# Altium schematic symbol library ATSAM3S.SchLib: 4 symbols
Pins are listed as number, name and electrical type; pins without a type are passive.

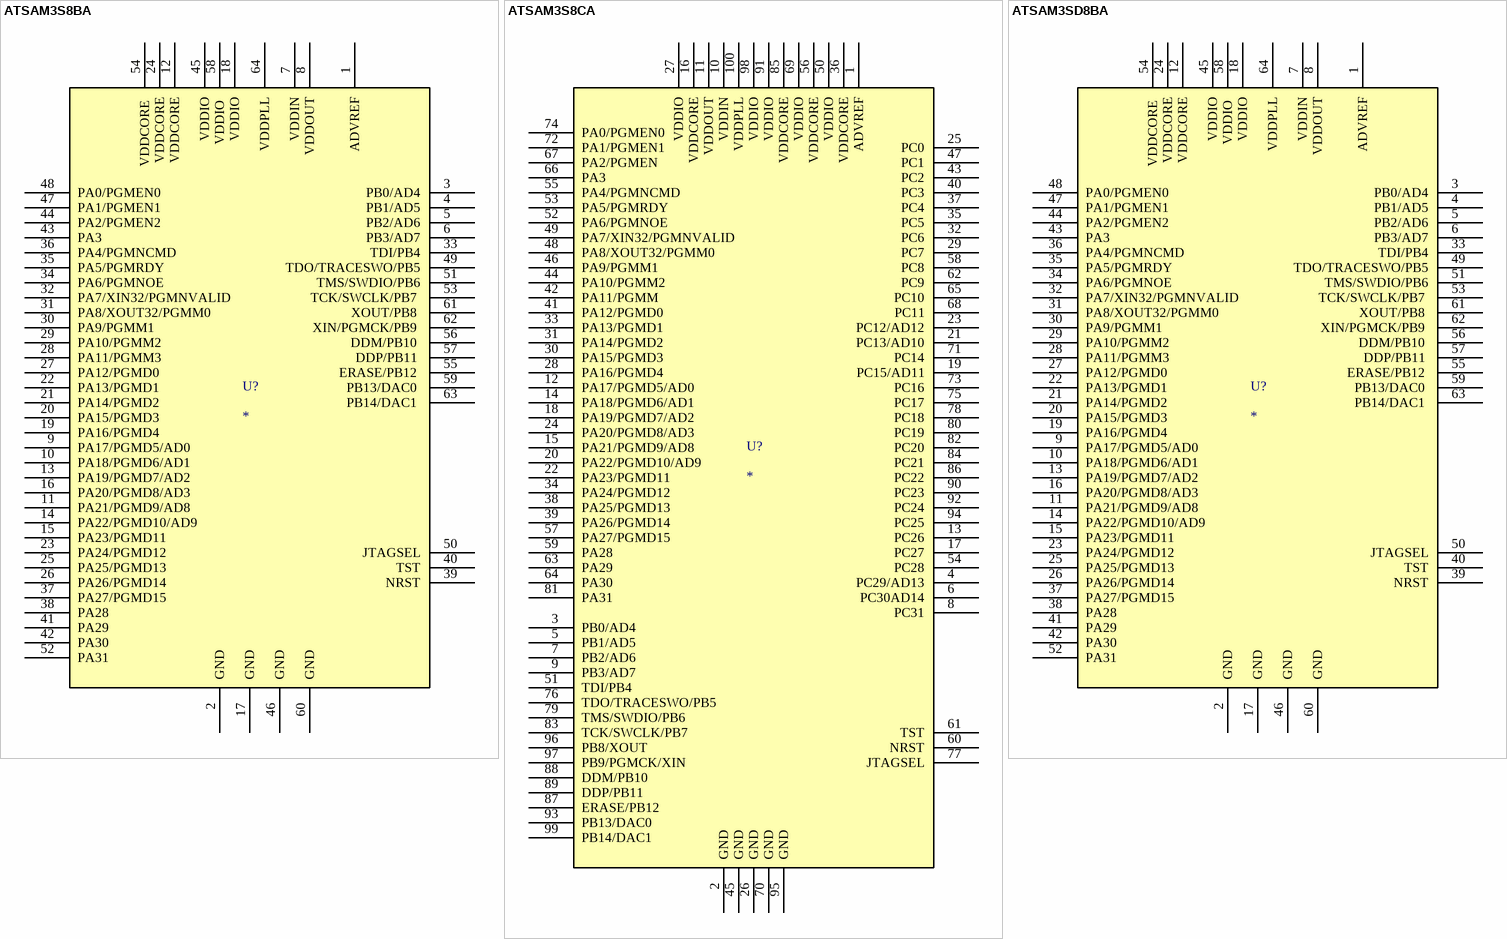
[diagram p0: symbols ATSAM3S8BA to ATSAM3SD8BA]

## ATSAM3S8BA
designator U?
pins: 1 ADVREF, 2 GND, 3 PB0/AD4, 4 PB1/AD5, 5 PB2/AD6, 6 PB3/AD7, 7 VDDIN, 8 VDDOUT, 9 PA17/PGMD5/AD0, 10 PA18/PGMD6/AD1, 11 PA21/PGMD9/AD8, 12 VDDCORE, 13 PA19/PGMD7/AD2, 14 PA22/PGMD10/AD9, 15 PA23/PGMD11, 16 PA20/PGMD8/AD3, 17 GND, 18 VDDIO, 19 PA16/PGMD4, 20 PA15/PGMD3, 21 PA14/PGMD2, 22 PA13/PGMD1, 23 PA24/PGMD12, 24 VDDCORE, 25 PA25/PGMD13, 26 PA26/PGMD14, 27 PA12/PGMD0, 28 PA11/PGMM3, 29 PA10/PGMM2, 30 PA9/PGMM1, 31 PA8/XOUT32/PGMM0, 32 PA7/XIN32/PGMNVALID, 33 TDI/PB4, 34 PA6/PGMNOE, 35 PA5/PGMRDY, 36 PA4/PGMNCMD, 37 PA27/PGMD15, 38 PA28, 39 NRST, 40 TST, 41 PA29, 42 PA30, 43 PA3, 44 PA2/PGMEN2, 45 VDDIO, 46 GND, 47 PA1/PGMEN1, 48 PA0/PGMEN0, 49 TDO/TRACESWO/PB5, 50 JTAGSEL, 51 TMS/SWDIO/PB6, 52 PA31 , 53 TCK/SWCLK/PB7 , 54 VDDCORE , 55 ERASE/PB12 , 56 DDM/PB10 , 57 DDP/PB11 , 58 VDDIO , 59 PB13/DAC0 , 60 GND , 61 XOUT/PB8 , 62 XIN/PGMCK/PB9 , 63 PB14/DAC1 , 64 VDDPLL

## ATSAM3S8CA
designator U?
pins: 1 ADVREF, 2 GND, 3 PB0/AD4, 4 PC29/AD13, 5 PB1/AD5, 6 PC30AD14, 7 PB2/AD6, 8 PC31, 9 PB3/AD7, 10 VDDIN, 11 VDDOUT, 12 PA17/PGMD5/AD0, 13 PC26, 14 PA18/PGMD6/AD1, 15 PA21/PGMD9/AD8, 16 VDDCORE, 17 PC27, 18 PA19/PGMD7/AD2, 19 PC15/AD11, 20 PA22/PGMD10/AD9, 21 PC13/AD10, 22 PA23/PGMD11, 23 PC12/AD12, 24 PA20/PGMD8/AD3, 25 PC0, 26 GND, 27 VDDIO, 28 PA16/PGMD4, 29 PC7, 30 PA15/PGMD3, 31 PA14/PGMD2, 32 PC6, 33 PA13/PGMD1, 34 PA24/PGMD12, 35 PC5, 36 VDDCORE, 37 PC4, 38 PA25/PGMD13, 39 PA26/PGMD14, 40 PC3, 41 PA12/PGMD0, 42 PA11/PGMM, 43 PC2, 44 PA10/PGMM2, 45 GND, 46 PA9/PGMM1, 47 PC1, 48 PA8/XOUT32/PGMM0, 49 PA7/XIN32/PGMNVALID, 50 VDDIO, 51 TDI/PB4, 52 PA6/PGMNOE, 53 PA5/PGMRDY, 54 PC28, 55 PA4/PGMNCMD, 56 VDDCORE, 57 PA27/PGMD15, 58 PC8, 59 PA28, 60 NRST, 61 TST, 62 PC9, 63 PA29, 64 PA30, 65 PC10, 66 PA3, 67 PA2/PGMEN, 68 PC11, 69 VDDIO, 70 GND, 71 PC14, 72 PA1/PGMEN1, 73 PC16, 74 PA0/PGMEN0, 75 PC17, 76 TDO/TRACESWO/PB5, 77 JTAGSEL, 78 PC18, 79 TMS/SWDIO/PB6, 80 PC19, 81 PA31, 82 PC20, 83 TCK/SWCLK/PB7, 84 PC21, 85 VDDCORE, 86 PC22, 87 ERASE/PB12, 88 DDM/PB10, 89 DDP/PB11, 90 PC23, 91 VDDIO, 92 PC24, 93 PB13/DAC0, 94 PC25, 95 GND, 96 PB8/XOUT, 97 PB9/PGMCK/XIN, 98 VDDIO, 99 PB14/DAC1, 100 VDDPLL

## ATSAM3SD8BA
designator U?
pins: 1 ADVREF, 2 GND, 3 PB0/AD4, 4 PB1/AD5, 5 PB2/AD6, 6 PB3/AD7, 7 VDDIN, 8 VDDOUT, 9 PA17/PGMD5/AD0, 10 PA18/PGMD6/AD1, 11 PA21/PGMD9/AD8, 12 VDDCORE, 13 PA19/PGMD7/AD2, 14 PA22/PGMD10/AD9, 15 PA23/PGMD11, 16 PA20/PGMD8/AD3, 17 GND, 18 VDDIO, 19 PA16/PGMD4, 20 PA15/PGMD3, 21 PA14/PGMD2, 22 PA13/PGMD1, 23 PA24/PGMD12, 24 VDDCORE, 25 PA25/PGMD13, 26 PA26/PGMD14, 27 PA12/PGMD0, 28 PA11/PGMM3, 29 PA10/PGMM2, 30 PA9/PGMM1, 31 PA8/XOUT32/PGMM0, 32 PA7/XIN32/PGMNVALID, 33 TDI/PB4, 34 PA6/PGMNOE, 35 PA5/PGMRDY, 36 PA4/PGMNCMD, 37 PA27/PGMD15, 38 PA28, 39 NRST, 40 TST, 41 PA29, 42 PA30, 43 PA3, 44 PA2/PGMEN2, 45 VDDIO, 46 GND, 47 PA1/PGMEN1, 48 PA0/PGMEN0, 49 TDO/TRACESWO/PB5, 50 JTAGSEL, 51 TMS/SWDIO/PB6, 52 PA31 , 53 TCK/SWCLK/PB7 , 54 VDDCORE , 55 ERASE/PB12 , 56 DDM/PB10 , 57 DDP/PB11 , 58 VDDIO , 59 PB13/DAC0 , 60 GND , 61 XOUT/PB8 , 62 XIN/PGMCK/PB9 , 63 PB14/DAC1 , 64 VDDPLL

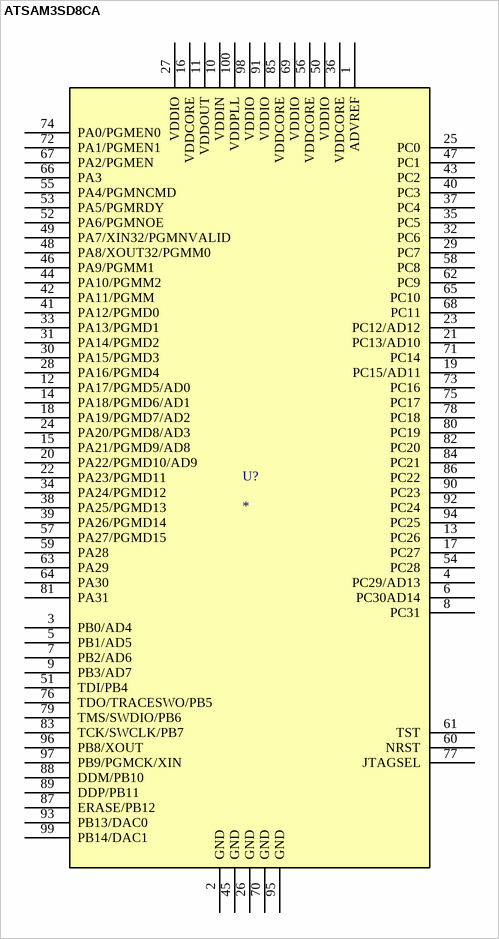
[diagram p1: symbol ATSAM3SD8CA]

## ATSAM3SD8CA
designator U?
pins: 1 ADVREF, 2 GND, 3 PB0/AD4, 4 PC29/AD13, 5 PB1/AD5, 6 PC30AD14, 7 PB2/AD6, 8 PC31, 9 PB3/AD7, 10 VDDIN, 11 VDDOUT, 12 PA17/PGMD5/AD0, 13 PC26, 14 PA18/PGMD6/AD1, 15 PA21/PGMD9/AD8, 16 VDDCORE, 17 PC27, 18 PA19/PGMD7/AD2, 19 PC15/AD11, 20 PA22/PGMD10/AD9, 21 PC13/AD10, 22 PA23/PGMD11, 23 PC12/AD12, 24 PA20/PGMD8/AD3, 25 PC0, 26 GND, 27 VDDIO, 28 PA16/PGMD4, 29 PC7, 30 PA15/PGMD3, 31 PA14/PGMD2, 32 PC6, 33 PA13/PGMD1, 34 PA24/PGMD12, 35 PC5, 36 VDDCORE, 37 PC4, 38 PA25/PGMD13, 39 PA26/PGMD14, 40 PC3, 41 PA12/PGMD0, 42 PA11/PGMM, 43 PC2, 44 PA10/PGMM2, 45 GND, 46 PA9/PGMM1, 47 PC1, 48 PA8/XOUT32/PGMM0, 49 PA7/XIN32/PGMNVALID, 50 VDDIO, 51 TDI/PB4, 52 PA6/PGMNOE, 53 PA5/PGMRDY, 54 PC28, 55 PA4/PGMNCMD, 56 VDDCORE, 57 PA27/PGMD15, 58 PC8, 59 PA28, 60 NRST, 61 TST, 62 PC9, 63 PA29, 64 PA30, 65 PC10, 66 PA3, 67 PA2/PGMEN, 68 PC11, 69 VDDIO, 70 GND, 71 PC14, 72 PA1/PGMEN1, 73 PC16, 74 PA0/PGMEN0, 75 PC17, 76 TDO/TRACESWO/PB5, 77 JTAGSEL, 78 PC18, 79 TMS/SWDIO/PB6, 80 PC19, 81 PA31, 82 PC20, 83 TCK/SWCLK/PB7, 84 PC21, 85 VDDCORE, 86 PC22, 87 ERASE/PB12, 88 DDM/PB10, 89 DDP/PB11, 90 PC23, 91 VDDIO, 92 PC24, 93 PB13/DAC0, 94 PC25, 95 GND, 96 PB8/XOUT, 97 PB9/PGMCK/XIN, 98 VDDIO, 99 PB14/DAC1, 100 VDDPLL